# Altium schematic symbol library PACXlib.SchLib: 101 symbols
Pins are listed as number, name and electrical type; pins without a type are passive.

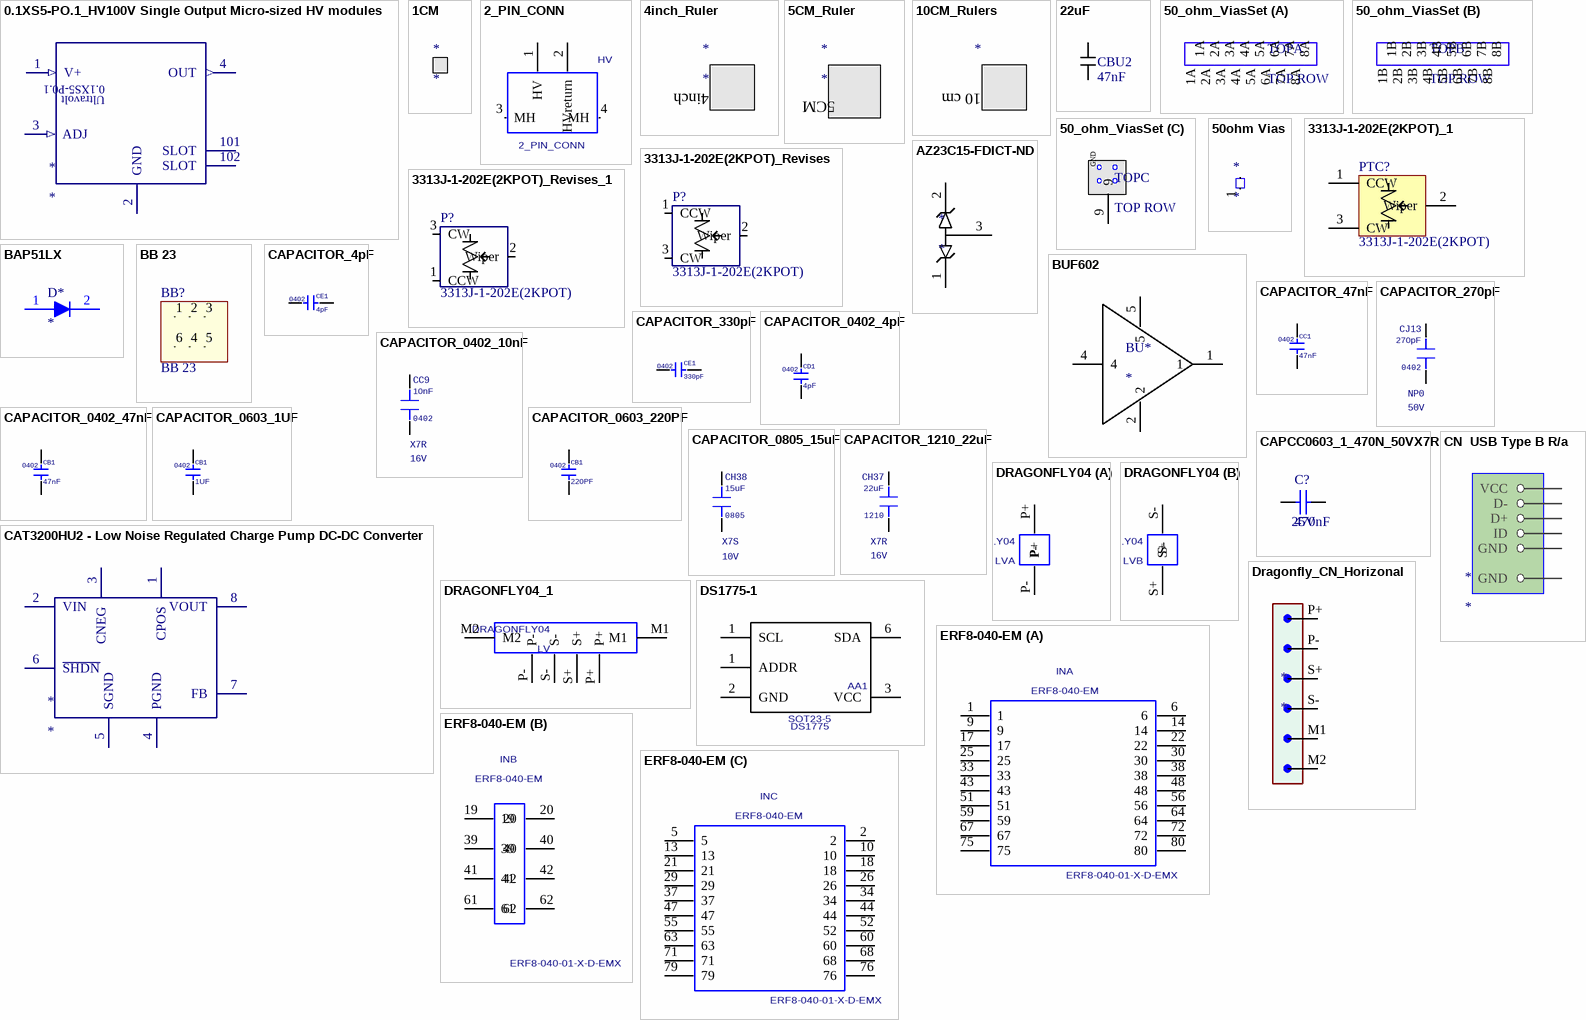
[diagram p0: symbols 0.1XS5-PO.1_HV100V Single Output Micro-sized HV modules to ERF8-040-EM]

## 0.1XS5-PO.1_HV100V Single Output Micro-sized HV modules
designator *
Extra-Small High Voltage Biasing Supply; Website: http://www.advanced-energy.com/product/application-notes/tn-xs-1
footprint 0.1XS5-PO.1
pins: 1 V+ (in) "5V Supply Voltage (Imax = 50mA)", 2 GND, 3 ADJ (in) "Remote Adjust Inputs.", 4 OUT (out) "HV OUTPUT (0-100V)", 101 SLOT, 102 SLOT
text: 0.1XS5-P0.1; Ultravolt

## 1CM
designator *
1 cm Ruler
footprint 1cm

## 2_PIN_CONN
designator HV
CONN HEADER 2POS R/A 30GOLD SMD; Manufacturer#: 2-1445099-2; digikey part #: 2-1445099-2-ND; PCB DECAL: 2_PIN_CONN
footprint 2_PIN_CONN
pins: 1 HV, 2 HVreturn, 3 MH, 4 MH

## 4inch_Ruler
designator *
4 Inch Rulers
footprint 4inch (Imperial Rules in Inches (Silkscreen Top))
text: 4inch

## 5CM_Ruler
designator *
5cm Rulers
footprint Ruler_5cm
text: 5CM

## 10CM_Rulers
designator *  (value not drawn)
10cm Rulers
footprint RULER_10CM
text: 10 cm

## 22uF
designator CBU2, comment 47nF
CAP CER 22UF 6.3V X5R 0603; Manufacturer: Samsung Electro-Mechanics America, Inc.; Manufacturer part #: CL10A226KQ8NRNE; Cost: $0.33; Package size: CAP SMD 0603; Supplier 1: Digi-Key; Supplier Part Number 1: 1276-2867-1-ND
footprint 0603 (0.063" L x 0.031" W (1.60mm x 0.80mm))
pins: 1 "GROUND", 2

## 50_ohm_ViasSet
designator TOP, comment TOP ROW
footprint 50OHM_Vias_Set
part A pins: 1A, 2A, 3A, 4A, 5A, 6A, 7A, 8A
part B pins: 1B, 2B, 3B, 4B, 5B, 6B, 7B, 8B
part C pins: 9
part C text: GND

## 50ohm Vias
designator *
footprint 50OHM_VIAS
pins: 1 IN, 2 GND

## 3313J-1-202E(2KPOT)_1
designator PTC?, comment 3313J-1-202E(2KPOT)
TRIMMER 2K OHM 0.125W SMD; Manufacturer: Bourns Inc.; cost: $2.08; Manufacturer part #: 3313J-1-202E; Package size: Rectangular - 0.138" x 0.126" Face x 0.087" H (3.50mm x 3.20mm x 2.20mm); Supplier 1: Digi-Key; Supplier Part Number 1: 3313J-202ECT-ND
footprint 2KPOT (TRIMMER 2K OHM 0.125W SMD)
pins: 1 CCW "Control Votage", 2 Wiper "Ground", 3 CW "Supply Voltage"

## 3313J-1-202E(2KPOT)_Revises
designator P?, comment 3313J-1-202E(2KPOT)
TRIMMER 2K OHM 0.125W SMD; Manufacturer: Bourns Inc.; cost: $2.08; Manufacturer part #: 3313J-1-202E; Package size: Rectangular - 0.138" x 0.126" Face x 0.087" H (3.50mm x 3.20mm x 2.20mm); Supplier 1: Digi-Key; Supplier Part Number 1: 3313J-202ECT-ND
footprint 2KPOT (TRIMMER 2K OHM 0.125W SMD)
pins: 1 CCW "Control Votage", 2 Wiper "Ground", 3 CW "Supply Voltage"

## 3313J-1-202E(2KPOT)_Revises_1
designator P?, comment 3313J-1-202E(2KPOT)
TRIMMER 2K OHM 0.125W SMD; Manufacturer: Bourns Inc.; cost: $2.08; Manufacturer part #: 3313J-1-202E; Package size: Rectangular - 0.138" x 0.126" Face x 0.087" H (3.50mm x 3.20mm x 2.20mm); Supplier 1: Digi-Key; Supplier Part Number 1: 3313J-202ECT-ND
footprint 2KPOT (TRIMMER 2K OHM 0.125W SMD)
pins: 1 CCW "Control Votage", 2 Wiper "Ground", 3 CW "Supply Voltage"

## AZ23C15-FDICT-ND
designator *
footprint SOT23-1
pins: 1, 2, 3

## BAP51LX
designator D*
DIODE SILICON PIN SOD-882T; Supplier 1: Digi-Key; Supplier Part Number 1: BAP51LX,315-ND
footprint DFN1006N-2_1
pins: 1, 2

## BB 23
designator BB?
footprint BREAD BOARD (2X5 .1IN BREAD BAORD)
pins: 1 "POSITIVE GROUND", 2 "POSITIVE GROUND", 3 "POSITIVE GROUND", 4 "POSITIVE GROUND", 5 "POSITIVE GROUND", 6 "POSITIVE GROUND"

## BUF602
designator BU*
IC OPAMP BUFFER 1GHZ 8SOIC; Supplier 1: Digi-Key; Supplier Part Number 1: BUF602IDR-ND
footprint SOT23-5
pins: 1, 2, 4, 5

## CAPACITOR_4pF
designator CE1, comment value 4pF  PCB DECAL: 0402  (hidden comment: CAPACITOR)
Part Number: C1005X7R1H473K050BB; Sim.Analog.Order: Model$; Voltage Rating: 50V; temp coeff: X7R; digikey part #: 445-7336-2-ND; Cost: 0.00204
footprint 0402
pins: 1, 2

## CAPACITOR_47nF
designator CC1, comment value 47nF  PCB DECAL: 0402  (hidden comment: CAPACITOR)
Part Number: C1005X7R1H473K050BB; Sim.Analog.Order: Model$; Voltage Rating: 50V; temp coeff: X7R; digikey part #: 445-7336-2-ND; Cost: 0.00204
footprint 0402
pins: 1, 2

## CAPACITOR_270pF
designator CJ13  value 270pF  Voltage Rating: 50V  PCB DECAL: 0402  temp coeff: NP0  (hidden comment: CAPACITOR_270pF)
CAP CER 270PF 50V NP0 0402; Part Number: UMK105CG271JV-F; Sim.Analog.Order: Model$; Supplier 1: Digi-Key; Supplier Part Number 1: 490-10686-1-ND; Supplier 2: Newark; Supplier Part Number 2: 64K2921
footprint 0402
pins: 1, 2

## CAPACITOR_330pF
designator CE1  value 330pF  PCB DECAL: 0402  (hidden comment: CAPACITOR_330pF)
CAP CER 330PF 50V C0G/NP0; Sim.Analog.Order: Model$; temp coeff: CP0; Voltage Rating: 50V; Supplier 1: Digi-Key; Supplier Part Number 1: 490-1295-6-ND
footprint 0402
pins: 1, 2

## CAPACITOR_0402_4pF
designator CD1, comment value 4pF  PCB DECAL: 0402  (hidden comment: CAPACITOR_4pF)
CAP CER 4PF 50V C0G/NP0 0402; Part Number: GJM1555C1H4R0BB01D; Sim.Analog.Order: Model$; temp coeff: X7R; Voltage Rating: 50V; digikey part #: 490-8100-1-ND; Cost: 0.00204; Supplier 1: Digi-Key; Supplier Part Number 1: 490-5873-1-ND
footprint 0402
pins: 1, 2

## CAPACITOR_0402_10nF
designator CC9  value 10nF  Voltage Rating: 16V  PCB DECAL: 0402  temp coeff: X7R  (hidden comment: CAPACITOR_0402_10nF)
CAP CER 10000PF 16V X7R 0402; Part Number: CC0402KRX7R7BB103; Sim.Analog.Order: Model$; digikey part #: 603-CC402KRX7R7BB103 (mouser); Cost: 0.002; Supplier 1: Digi-Key; Supplier Part Number 1: 490-4516-1-ND
footprint 0402
pins: 1, 2

## CAPACITOR_0402_47nF
designator CB1, comment value 47nF  PCB DECAL: 0402  (hidden comment: CAPACITOR_47nF)
CAP CER 0.047UF 50V X7R 0402; Part Number: C1005X7R1H473K050BB; Sim.Analog.Order: Model$; Voltage Rating: 50V; temp coeff: X7R; digikey part #: 445-7336-2-ND; Cost: 0.00204; Supplier 1: Digi-Key; Supplier Part Number 1: 445-6897-1-ND; Supplier 2: Digi-Key; Supplier Part Number 2: 490-3254-1-ND
footprint 0402
pins: 1, 2

## CAPACITOR_0603_1UF
designator CB1, comment value 1UF  PCB DECAL: 0402  (hidden comment: CAPACITOR_1UF)
CAP CER 1UF 1KV C0G/NP0 0603; Part Number: C1005X7R1H473K050BB; Sim.Analog.Order: Model$; temp coeff: X7R; Voltage Rating: 1kV; digikey part #: 445-7336-2-ND; Cost: 0.00204; Supplier 1: Newark; Supplier Part Number 1: 96M1143
footprint CC0603N1R (Chip capacitor 0603 ROUND PAD)
pins: 1, 2

## CAPACITOR_0603_220PF
designator CB1, comment value 220PF  PCB DECAL: 0402  (hidden comment: CAPACITOR_220PF)
CAP CER 220PF 1KV C0G/NP0 0603; Part Number: C1005X7R1H473K050BB; Sim.Analog.Order: Model$; temp coeff: X7R; Voltage Rating: 1kV; digikey part #: 445-7336-2-ND; Cost: 0.00204; Supplier 1: Newark; Supplier Part Number 1: 22T0023; Supplier 2: Digi-Key; Supplier Part Number 2: 399-14840-1-ND
footprint CC0603N1R (Chip capacitor 0603 ROUND PAD)
pins: 1, 2

## CAPACITOR_0805_15uF
designator CH38  value 15uF  Voltage Rating: 10V  PCB DECAL: 0805  temp coeff: X7S  (hidden comment: CAPACITOR_0805_15uF)
CAP TANT 15UF 4V 20% 0805; Part Number: C2012X7S1A156M125AC; Sim.Analog.Order: Model$; Cost: 0.084; digikey part #: 445-14559-2-ND; Supplier 1: Digi-Key; Supplier Part Number 1: 478-8361-6-ND; Supplier 2: Digi-Key; Supplier Part Number 2: 478-3274-2-ND; Supplier 3: Digi-Key; Supplier Part Number 3: 478-8361-1-ND; Supplier 4: Digi-Key; Supplier Part Number 4: 478-4187-2-ND; Supplier 5: Digi-Key; Supplier Part Number 5: 478-4187-1-ND; Supplier 6: Digi-Key; Supplier Part Number 6: 490-1643-2-ND
footprint 0803-2
pins: 1, 2

## CAPACITOR_1210_22uF
designator CH37  value 22uF  Voltage Rating: 16V  PCB DECAL: 1210  temp coeff: X7R  (hidden comment: CAPACITOR_1210_22uF)
CAP CER 22UF 16V X7R 1210; Part Number: C3225X7R1C226K250AC; Sim.Analog.Order: Model$; Cost: 0.216; Supplier 1: Digi-Key; Supplier Part Number 1: 478-3039-6-ND
footprint 1210
pins: 1, 2

## CAPCC0603_1_470N_50VX7R
designator C?, comment 470nF  Voltage rating: 25V
Capacitor chip ceramic 0603 25V X7R; Manufacturer: Murata; Manufacturer No: GRM188R71E474KA12D; Tech: SMDR; Package: Cap Chip 0603; Supplier 1: Newark; Supplier Part Number 1: 72W1809; Supplier 2: Mouser; Supplier Part Number 2: 81-GRM188R71E474KA12; Supplier 3: Digi-Key; Supplier Part Number 3: 490-3291-1-ND
signal-integrity model Model Name (Model Description)
footprint CC0603N1R (Chip capacitor 0603 ROUND PAD)
footprint CC0603N1X (Chip capacitor 0603)
footprint CC0603RF1 (Chip capacitor 0603 RF pad)
footprint CC0603RF1R (Chip capacitor 0603 RF pad ROUNDED PAD)
pins: 1, 2

## CAT3200HU2 - Low Noise Regulated Charge Pump DC-DC Converter
designator *
IC REG SWITCHD CAP ADJ/5V 8DFN; Supplier 1: Digi-Key; Supplier Part Number 1: CAT3200HU2-GT3OSCT-ND
footprint UDFN-8
pins: 1 CPOS, 2 VIN, 3 CNEG, 4 PGND, 5 SGND, 6 ~{SHDN}, 7 FB, 8 VOUT

## CN  USB Type B R/a
designator *
footprint USB Micro USB (USB - micro B USB 2.0 Receptacle Connector 5 Position Surface Mount, Right Angle; Through Hole)
pins: 1 VCC, 2 D-, 3 D+, 4 ID, 5 GND, 6 GND

## DRAGONFLY04
designator LV
PCB DECAL: DRAGONFLY04-RIGHT-ANGLE-SHORT
footprint DRAGONFLY04-RIGHT-ANGLE-SHORT
part A pins: P+, P-
part B pins: S+, S-

## DRAGONFLY04_1
designator LV, comment DRAGONFLY04
PCB DECAL: DRAGONFLY04-RIGHT-ANGLE-SHORT
footprint DRAGONFLY04-RIGHT-ANGLE-SHORT
pins: M1, M2, P+, P-, S+, S-

## Dragonfly_CN_Horizonal
designator *
footprint DRAGONFLY04-RA_NoMH
pins: M1, M2, P+, P-, S+, S-

## DS1775-1
designator AA1  Part Number: DS1775  PCB DECAL: SOT23-5  (hidden comment: DS1775-1)
Temperature_Sensors-SOT23-5; Geometry.Height: 0.8; digikey part #: DS1775R+T&RCT-ND; Cost: 2; Supplier 1: Digi-Key; Supplier Part Number 1: DS1775R4+CT-ND
footprint SOT23-5
pins: 1 ADDR, 1 SCL, 2 GND, 3 VCC, 6 SDA

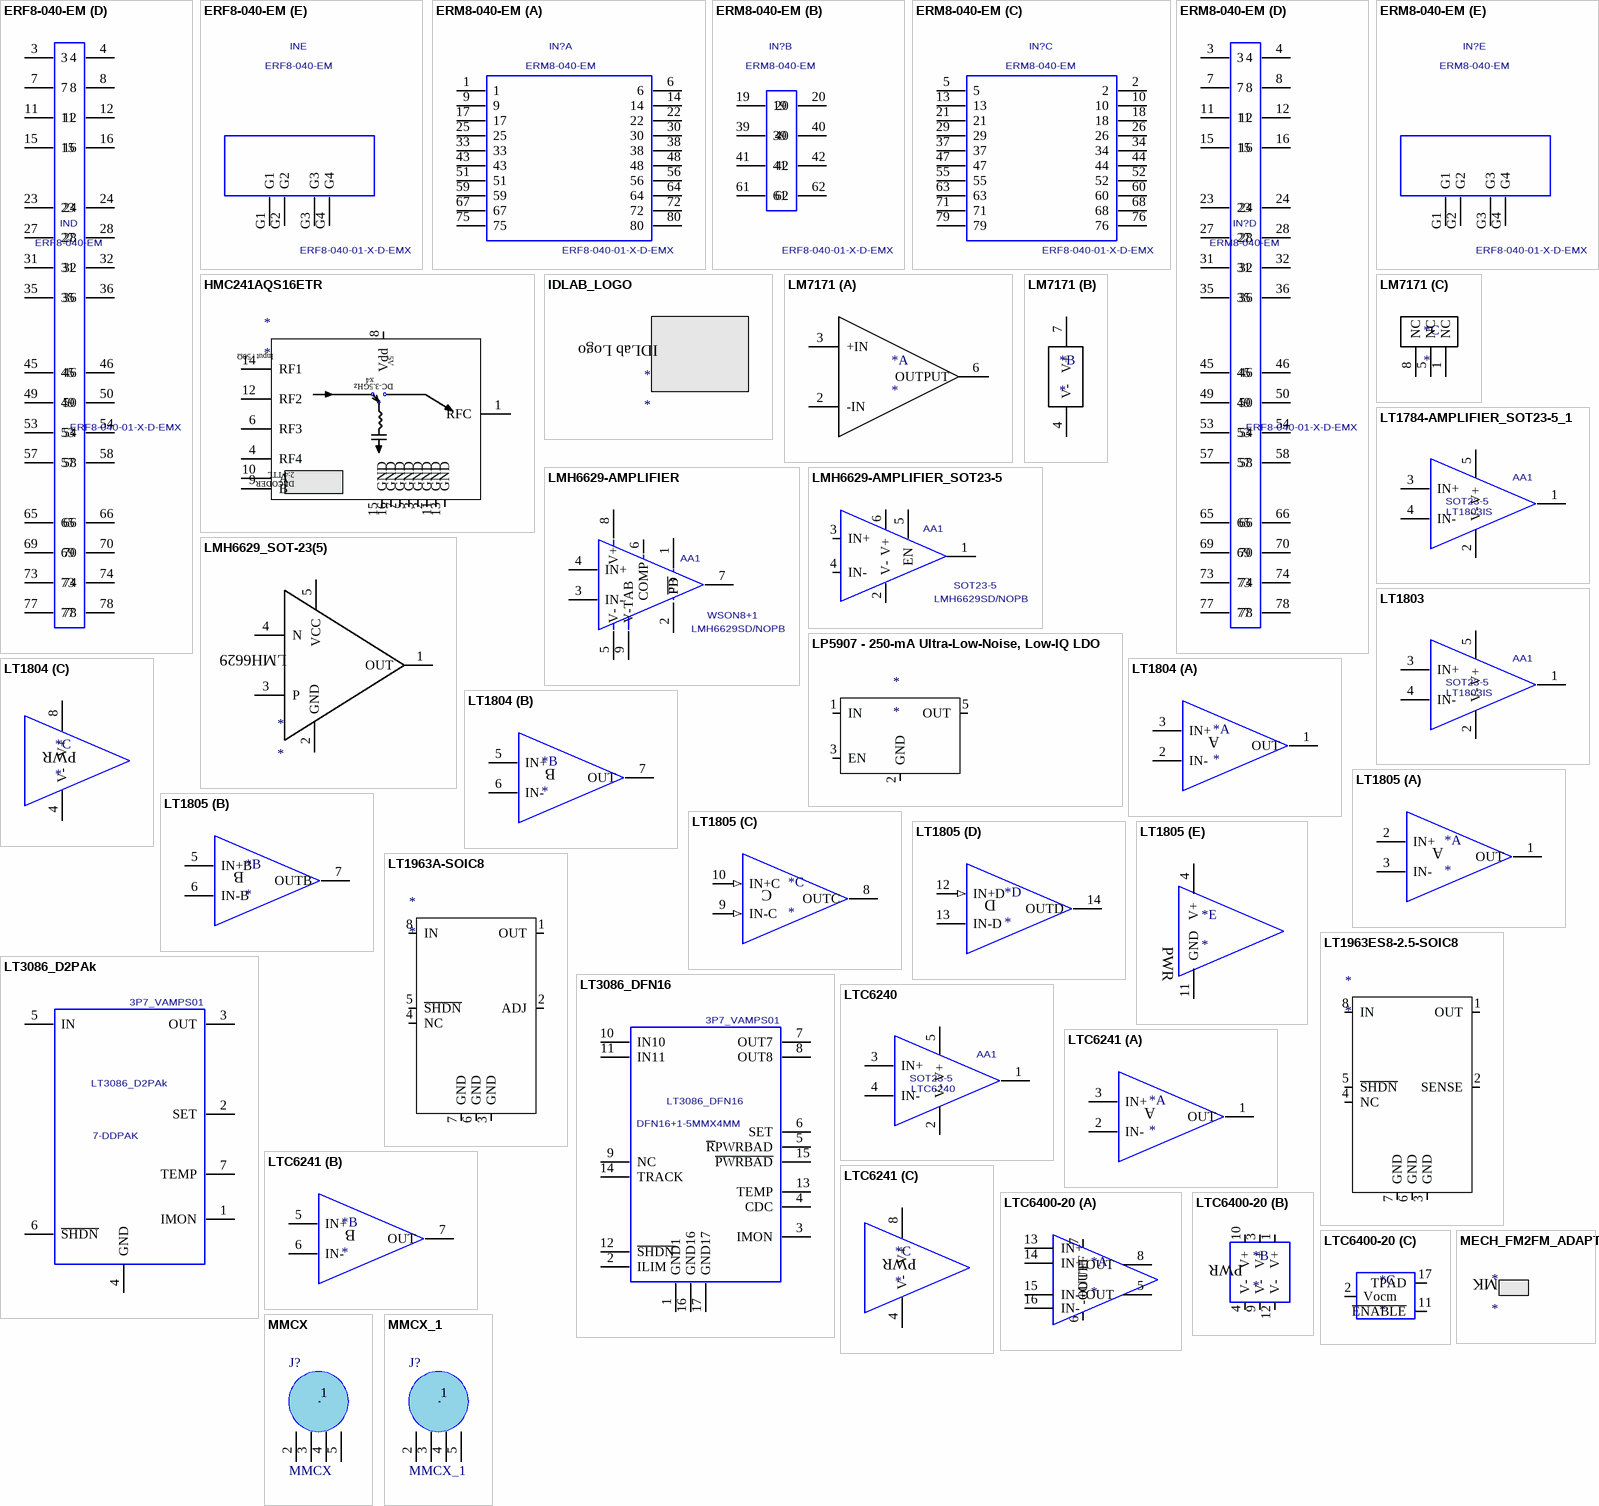
[diagram p1: symbols ERF8-040-EM to MMCX_1]

## ERF8-040-EM
designator IN  PCB DECAL: ERF8-040-01-X-D-EMX
Edge Rate Socket Assembly, .8 mm Pitch, 50 Pins; MANUFACTURER: SAMTEC; CREATED: July 22, 2015 - Wendy Xin
footprint ERF8-040-01-X-D-EMX
part A pins: 1, 6, 9, 14, 17, 22, 25, 30, 33, 38, 43, 48, 51, 56, 59, 64, 67, 72, 75, 80
part B pins: 19, 20, 39, 40, 41, 42, 61, 62
part C pins: 2, 5, 10, 13, 18, 21, 26, 29, 34, 37, 44, 47, 52, 55, 60, 63, 68, 71, 76, 79
part D pins: 3, 4, 7, 8, 11, 12, 15, 16, 23, 24, 27, 28, 31, 32, 35, 36, 45, 46, 49, 50, 53, 54, 57, 58, 65, 66, 69, 70, 73, 74, 77, 78
part E pins: G1, G2, G3, G4

## ERM8-040-EM
designator IN?  PCB DECAL: ERF8-040-01-X-D-EMX
Edge Rate Socket Assembly, .8 mm Pitch, 50 Pins; MANUFACTURER: SAMTEC; CREATED: July 22, 2015 - Wendy Xin
footprint ERM8-040-01-X-D-EMX
part A pins: 1, 6, 9, 14, 17, 22, 25, 30, 33, 38, 43, 48, 51, 56, 59, 64, 67, 72, 75, 80
part B pins: 19, 20, 39, 40, 41, 42, 61, 62
part C pins: 2, 5, 10, 13, 18, 21, 26, 29, 34, 37, 44, 47, 52, 55, 60, 63, 68, 71, 76, 79
part D pins: 3, 4, 7, 8, 11, 12, 15, 16, 23, 24, 27, 28, 31, 32, 35, 36, 45, 46, 49, 50, 53, 54, 57, 58, 65, 66, 69, 70, 73, 74, 77, 78
part E pins: G1, G2, G3, G4

## HMC241AQS16ETR
designator *
GaAs MMIC SP4T NON-REFLECTIVE  SWITCH, DC - 3.5 GHz; Supplier 1: Digi-Key; Supplier Part Number 1: 1127-3085-6-ND
footprint SOP127P600-8N
pins: 1 RFC, 2 GND, 3 GND, 4 RF4, 5 GND, 6 RF3, 7 GND, 8 Vdd, 9 B, 10 A, 11 GND, 12 RF2, 13 GND, 14 RF1, 15 GND, 16 GND
text: 5V; Input : 50Ω; x4; DC-3.5GHz; 2:4 TTL; DECODER

## IDLAB_LOGO
designator *
footprint LOGO
text: IDLab Logo

## LM7171
designator *
LM7171  Very High Speed,  High Output  Current,  Voltage  Feedback  Amplifier
footprint SO8
part A pins: 2 -IN, 3 +IN, 6 OUTPUT
part B pins: 4 V-, 7 V+
part C pins: 1 NC, 5 NC, 8 NC

## LMH6629-AMPLIFIER
designator AA1  Part Number: LMH6629SD/NOPB  PCB DECAL: WSON8+1  (hidden comment: LMH6629-AMPLIFIER)
IC OPAMP VFB 900MHZ 8WSON; Geometry.Height: 0.8; power: 0.05735W; digikey part #: 926-LMH6629SD/NOPB (mouser); Cost: 2; Supplier 1: Digi-Key; Supplier Part Number 1: LMH6629SDE/NOPBCT-ND
footprint WSON8+1
pins: 1 ~{PD}, 2 FB, 3 IN-, 4 IN+, 5 V-, 6 COMP, 7 OUT, 8 V+ (power), 9 V-TAB

## LMH6629-AMPLIFIER_SOT23-5
designator AA1  Part Number: LMH6629SD/NOPB  PCB DECAL: SOT23-5  (hidden comment: LMH6629-AMPLIFIER_SOT23-5)
IC OPAMP VFB 1GHZ SOT23-5; Geometry.Height: 0.8; power: 0.05735W; digikey part #: 926-LMH6629SD/NOPB (mouser); Cost: 2; Supplier 1: Digi-Key; Supplier Part Number 1: LMH6629MFE/NOPBDKR-ND; Supplier 2: Digi-Key; Supplier Part Number 2: LMH6629MFE/NOPBCT-ND
footprint SOT23-6-MODFIED
pins: 1 OUT, 2 V-, 3 IN+, 4 IN-, 5 EN, 6 V+ (power)

## LMH6629_SOT-23(5)
designator *
Supplier 1: Digi-Key; Supplier Part Number 1: LMH6629MFE/NOPBTR-ND
footprint SOT23-5
pins: 1 OUT, 2 GND, 3 P, 4 N, 5 VCC
text: LMH6629

## LP5907 - 250-mA Ultra-Low-Noise, Low-IQ LDO
designator *
Supplier 1: Digi-Key; Supplier Part Number 1: LP5907MFX-2.9/NOPB-ND
footprint SOT23-5
pins: 1 IN, 2 GND, 3 EN, 5 OUT

## LT1784-AMPLIFIER_SOT23-5_1
designator AA1, comment Part Number: LT1803IS  PCB DECAL: SOT23-5  (hidden comment: LT1784-AMPLIFIER_SOT23-5)
IC OPAMP GP 2.6MHZ RRO TSOT23-5; Geometry.Height: 0.8; power: 0.05735W; digikey part #: 926-LMH6629SD/NOPB (mouser); Cost: 2; Supplier 1: Digi-Key; Supplier Part Number 1: LT1784CS5#TRMPBFCT-ND
footprint SOT23-5
pins: 1 OUT, 2 V-, 3 IN+, 4 IN-, 5 V+ (power)

## LT1803
designator AA1  Part Number: LT1803IS  PCB DECAL: SOT23-5  (hidden comment: LT1803)
IC OPAMP GP 83MHZ RRO TSOT23-5; Geometry.Height: 0.8; power: 0.05735W; Cost: 2; Supplier 1: Digi-Key; Supplier Part Number 1: LT1803CS5#TRMPBFCT-ND; Supplier 2: Digi-Key; Supplier Part Number 2: LT1803CS5#TRMPBFDKR-ND
footprint SOT23-5
pins: 1 OUT, 2 V-, 3 IN+, 4 IN-, 5 V+ (power)

## LT1804
designator *
IC OPAMP GP 83MHZ RRO 8SO; Supplier 1: Digi-Key; Supplier Part Number 1: LT1804CS8#TRPBF-ND
footprint S8Package (8-Lead Plastic Small Outline (Narrow .150 Inch))
part A pins: 1 OUT, 2 IN-, 3 IN+
part B pins: 5 IN+, 6 IN-, 7 OUT
part C pins: 4 V-, 8 V+
part A text: A
part B text: B
part C text: PWR

## LT1805
designator *
IC OPAMP GP 83MHZ RRO 14SO; Supplier 1: Digi-Key; Supplier Part Number 1: LT1805CS#PBF-ND
footprint SO-14
part A pins: 1 OUT, 2 IN+, 3 IN-
part B pins: 5 IN+B, 6 IN-B, 7 OUTB
part C pins: 8 OUTC, 9 IN-C (in), 10 IN+C (in)
part D pins: 12 IN+D (in), 13 IN-D, 14 OUTD
part E pins: 4 V+, 11 GND
part A text: A
part B text: B
part C text: C
part D text: D
part E text: PWR

## LT1963A-SOIC8
designator *
IC REG LINEAR POS ADJ 1.5A 8SOIC; NOTE1: USE 10UF XR7 For output; Supplier 1: Digi-Key; Supplier Part Number 1: LT1963AES8#PBF-ND
footprint S8Package (8-Lead Plastic Small Outline (Narrow .150 Inch))
pins: 1 OUT, 2 ADJ, 3 GND, 4 NC, 5 ~{SHDN}, 6 GND, 7 GND, 8 IN

## LT1963ES8-2.5-SOIC8
designator *
IC REG LINEAR POS FIX 2.5 1.5A 8SOIC; NOTE1: USE 10UF XR7 For output; Supplier 1: Digi-Key; Supplier Part Number 1: LT1963AES8#PBF-ND
footprint S8Package (8-Lead Plastic Small Outline (Narrow .150 Inch))
pins: 1 OUT, 2 SENSE, 3 GND, 4 NC, 5 ~{SHDN}, 6 GND, 7 GND, 8 IN

## LT3086_D2PAk
designator 3P7_VAMPS01  PCB DECAL: 7-DDPAK
LDO reg with Imon, shdn, pwrgood; Part Number: LT3086ER#PBF-ND; Geometry.Height: 0.9mm; power: 0.391257W; digikey part #: LT3086ER#PBF-ND; Cost: 3.64; Supplier 1: Newark; Supplier Part Number 1: 20X9062; Supplier 2: Digi-Key; Supplier Part Number 2: LT3086MPR#PBF-ND; Supplier 3: Digi-Key; Supplier Part Number 3: LT3086IR#PBF-ND
footprint DDPAK-7
pins: 1 IMON, 2 SET, 3 OUT, 4 GND, 5 IN (power), 6 ~{SHDN}, 7 TEMP

## LT3086_DFN16
designator 3P7_VAMPS01  PCB DECAL: DFN16+1-5MMX4MM
LDO reg with Imon, shdn, pwrgood; Part Number: LT3086EDHD#PBF; Geometry.Height: 0.9mm; power: 0.391257W; digikey part #: LT3086EDHD#PBF-ND; Cost: 3.64; Supplier 1: Newark; Supplier Part Number 1: 20X9065; Supplier 2: Digi-Key; Supplier Part Number 2: LT3086IDHD#PBF-ND
footprint DFN16+1-5MMX4MM
pins: 1 GND1, 2 ILIM, 3 IMON, 4 CDC, 5 ~{R}PWRBAD, 6 SET, 7 OUT7, 8 OUT8, 9 NC, 10 IN10 (power), 11 IN11 (power), 12 ~{SHDN}, 13 TEMP, 14 TRACK, 15 ~{PWRBAD}, 16 GND16, 17 GND17

## LTC6240
designator AA1  PCB DECAL: SOT23-5  (hidden comment: LTC6240)
Single 18MHz, LowNoise, Rail-to-Rail Output CMOS Op Amp SOT23-5; Geometry.Height: 0.8; power: 0.05735W; digikey part #: LTC6240CS5#TRMPBFCT-ND; Cost: 2; Supplier 1: Digi-Key; Supplier Part Number 1: LTC6240IS5#TRMPBFCT-ND; Supplier 2: Digi-Key; Supplier Part Number 2: LTC6240IS5#TRMPBFDKR-ND; Part Number: LTC6240
footprint SOT23-5
pins: 1 OUT, 2 V-, 3 IN+, 4 IN-, 5 V+ (power)

## LTC6241
designator *
Dual 18MHz Low Noise, Rail-to-Rail Output Op-Amps; Supplier 1: Digi-Key; Supplier Part Number 1: LTC6241CS8#PBF-ND; Package: SO8
footprint S8Package (8-Lead Plastic Small Outline (Narrow .150 Inch))
part A pins: 1 OUT, 2 IN-, 3 IN+
part B pins: 5 IN+, 6 IN-, 7 OUT
part C pins: 4 V-, 8 V+
part A text: A
part B text: B
part C text: PWR

## LTC6400-20
designator *
IC ADC DRIVER DIFF 16-QFN; Supplier 1: Digi-Key; Supplier Part Number 1: LTC6400IUD-20#PBF-ND
footprint QFN65P400X400X100-16N (QFN 4x4mm 16pin R0.65mm)
part A pins: 5 -OUT, 6 -OUTF, 7 +OUTF, 8 +OUT, 13 IN+, 14 IN+, 15 IN-, 16 IN-
part B pins: 1 V+, 3 V+, 4 V-, 9 V-, 10 V+, 12 V-
part C pins: 2 Vocm, 11 ~{ENABLE}, 17 TPAD
part B text: PWR

## MECH_FM2FM_ADAPTER
designator *
footprint SMA_MECH_FM2FM_CONN
text: MK

## MMCX
designator J?
CONN MMCX JACK STR 50 OHM PCB; Manufacturer: Molex, LLC; Manufacturer part #: 0734151471; Cost: $3.10; Package size: MMCX; Supplier 1: Digi-Key; Supplier Part Number 1: WM5557-ND
footprint MMCX_VERTICAL_THROUGH_HOLE
pins: 1, 2, 3 "INPUT", 4 "INPUT", 5 "INPUT"

## MMCX_1
designator J?
CONN MMCX JACK STR 50 OHM PCB; Manufacturer: Molex, LLC; Manufacturer part #: 0734151471; Cost: $3.10; Package size: MMCX; Supplier 1: Digi-Key; Supplier Part Number 1: WM5557-ND
footprint MMCX_VERTICAL_THROUGH_HOLE_smallpad
pins: 1, 2, 3 "INPUT", 4 "INPUT", 5 "INPUT"

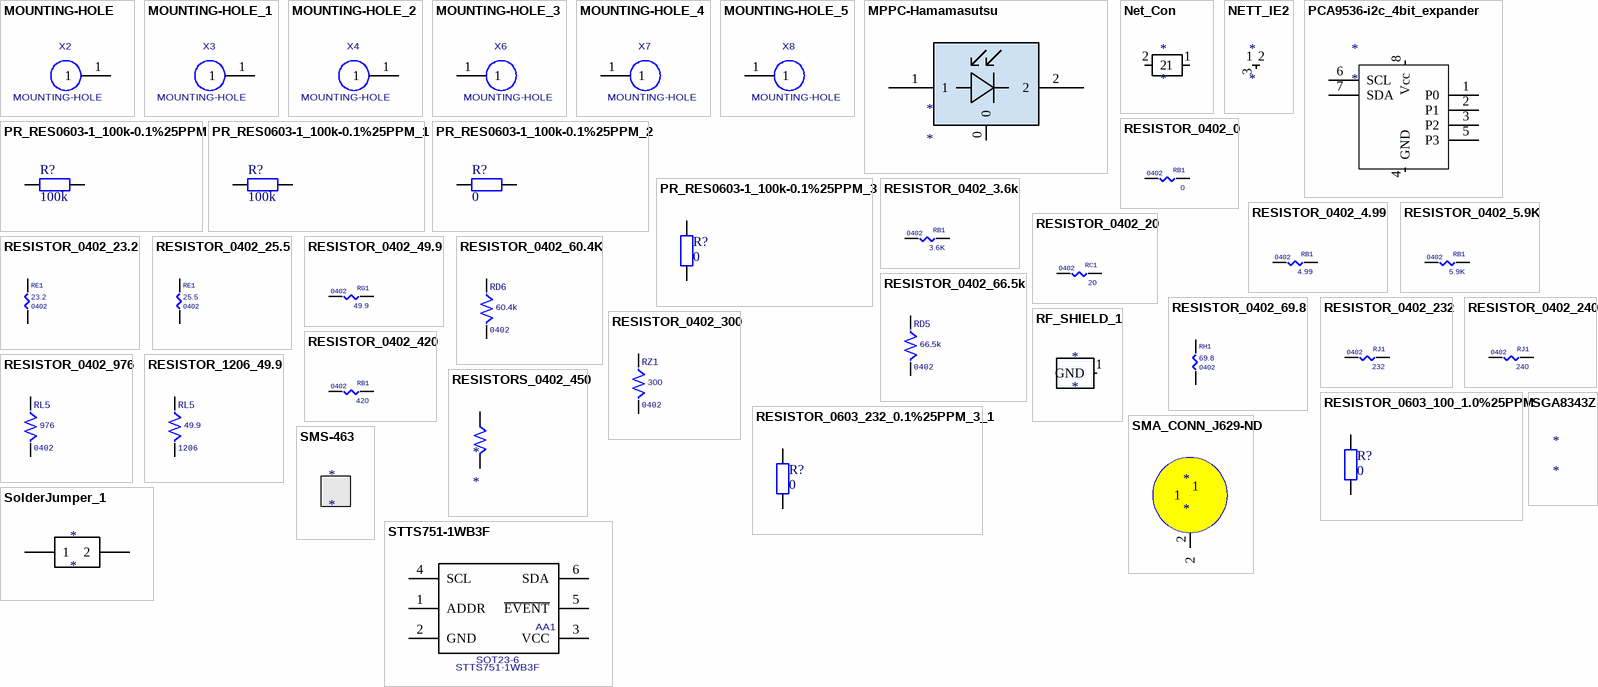
[diagram p2: symbols MOUNTING-HOLE to STTS751-1WB3F]

## MOUNTING-HOLE
designator X2
mounting hole; notes: do not install; PCB DECAL: MOUNTING-HOLE-6-32
footprint 6-32 MH (6-32 MOUNTING HOLE)
pins: 1

## MOUNTING-HOLE_1
designator X3, comment MOUNTING-HOLE
mounting hole; notes: do not install; PCB DECAL: MOUNTING-HOLE-6-32
footprint 6-32 MH (6-32 MOUNTING HOLE)
pins: 1

## MOUNTING-HOLE_2
designator X4, comment MOUNTING-HOLE
mounting hole; notes: do not install; PCB DECAL: MOUNTING-HOLE-6-32
footprint 6-32 MH (6-32 MOUNTING HOLE)
pins: 1

## MOUNTING-HOLE_3
designator X6, comment MOUNTING-HOLE
mounting hole; notes: do not install; PCB DECAL: MOUNTING-HOLE-6-32
footprint 6-32 MH (6-32 MOUNTING HOLE)
pins: 1

## MOUNTING-HOLE_4
designator X7, comment MOUNTING-HOLE
mounting hole; notes: do not install; PCB DECAL: MOUNTING-HOLE-6-32
footprint 6-32 MH (6-32 MOUNTING HOLE)
pins: 1

## MOUNTING-HOLE_5
designator X8, comment MOUNTING-HOLE
mounting hole; notes: do not install; PCB DECAL: MOUNTING-HOLE-6-32
footprint 6-32 MH (6-32 MOUNTING HOLE)
pins: 1

## MPPC-Hamamasutsu
designator *
footprint MPPC-Hamamasuku (3x3mm Multi-Pixel photon counter)
pins: 0, 1, 2

## Net_Con
designator *
footprint PCBComponent_1
pins: 1, 2

## NETT_IE2
designator *  (net tie, no BOM)
VCC_NET_TIE
footprint NETTIE
pins: 1 NET1, 2 NET2, 3 NET3

## PCA9536-i2c_4bit_expander
designator *
IC I/O EXPANDER I2C 4B 8VSSOP; Supplier 1: Digi-Key; Supplier Part Number 1: 296-20952-6-ND
footprint DGK (S-PDSO-G8) (Plastic Small-Outline Package (TI))
pins: 1 P0, 2 P1, 3 P2, 4 GND, 5 P3, 6 SCL, 7 SDA, 8 Vcc
1 alternate drawing of the same symbol

## PR_RES0603-1_100k-0.1%25PPM
designator R?, comment 100k
Chip Resistor 0603 100mW 0.1% 25ppm; Manufacturer: Panasonic; Manufacturer No: ERA-3AEB104V; Tech: SMDR; Package: Res Chip 0603; Supplier 1: Digi-Key; Supplier Part Number 1: P100KDBCT-ND; Supplier 2: Newark; Supplier Part Number 2: 08N2096; Supplier 3: Mouser; Supplier Part Number 3: 667-ERA-3AEB104V
simulation model RESISTOR (Resistor)
signal-integrity model Res
footprint RC0603N1R (Chip resistor 0603 ROUNDED PAD)
footprint RC0603N1X (Chip resistor 0603)
footprint RC0603RF1 (Chip resistor 0603 RF pad)
footprint RC0603RF1R (Chip resistor 0603 RF pad ROUNDED PAD)
pins: 1, 2
1 alternate drawing of the same symbol

## PR_RES0603-1_100k-0.1%25PPM_1
designator R?, comment 100k
Chip Resistor 0603 100mW 0.1% 25ppm; Manufacturer: Panasonic; Manufacturer No: ERA-3AEB104V; Tech: SMDR; Package: Res Chip 0603; Supplier 1: Digi-Key; Supplier Part Number 1: P100KDBCT-ND; Supplier 2: Newark; Supplier Part Number 2: 08N2096; Supplier 3: Mouser; Supplier Part Number 3: 667-ERA-3AEB104V
simulation model RESISTOR (Resistor)
signal-integrity model Res
footprint RC0603N1R (Chip resistor 0603 ROUNDED PAD)
footprint RC0603N1X (Chip resistor 0603)
footprint RC0603RF1 (Chip resistor 0603 RF pad)
footprint RC0603RF1R (Chip resistor 0603 RF pad ROUNDED PAD)
pins: 1, 2
1 alternate drawing of the same symbol

## PR_RES0603-1_100k-0.1%25PPM_2
designator R?, comment 0
Chip Resistor 0603 100mW 0.1% 25ppm; Manufacturer: Panasonic; Manufacturer No: ERA-3AEB104V; Tech: SMDR; Package: Res Chip 0603; Supplier 1: Digi-Key; Supplier Part Number 1: P100KDBCT-ND; Supplier 2: Newark; Supplier Part Number 2: 08N2096; Supplier 3: Mouser; Supplier Part Number 3: 667-ERA-3AEB104V
simulation model RESISTOR (Resistor)
signal-integrity model Res
footprint RC0603N1R (Chip resistor 0603 ROUNDED PAD)
footprint RC0603N1X (Chip resistor 0603)
footprint RC0603RF1 (Chip resistor 0603 RF pad)
footprint RC0603RF1R (Chip resistor 0603 RF pad ROUNDED PAD)
pins: 1, 2
1 alternate drawing of the same symbol

## PR_RES0603-1_100k-0.1%25PPM_3
designator R?, comment 0
Chip Resistor 0603 100mW 0.1% 25ppm; Manufacturer: Panasonic; Manufacturer No: ERA-3AEB104V; Tech: SMDR; Package: Res Chip 0603; Supplier 1: Digi-Key; Supplier Part Number 1: P100KDBCT-ND; Supplier 2: Newark; Supplier Part Number 2: 08N2096; Supplier 3: Mouser; Supplier Part Number 3: 667-ERA-3AEB104V
simulation model RESISTOR (Resistor)
signal-integrity model Res
footprint RC0603N1R (Chip resistor 0603 ROUNDED PAD)
footprint RC0603N1X (Chip resistor 0603)
footprint RC0603RF1 (Chip resistor 0603 RF pad)
footprint RC0603RF1R (Chip resistor 0603 RF pad ROUNDED PAD)
pins: 1, 2
1 alternate drawing of the same symbol

## RESISTOR_0402_0
designator RB1  value 0  PCB DECAL: 0402  (hidden comment: RESISTOR_0402_0)
RES SMD 0 OHM JUMPER 1/16W 0402; Part Number: CRCW04024R99FKED; Geometry.Height: 0.5mm; Sim.Analog.Order: Model$; Size / Package: 0402; digikey part #: 541-4.99LLTR-ND; Supplier 1: Newark; Supplier Part Number 1: 68R0036; Supplier 2: Newark; Supplier Part Number 2: 67R9963
footprint 0402
pins: 1, 2

## RESISTOR_0402_3.6k
designator RB1  value 3.6K  PCB DECAL: 0402  (hidden comment: RESISTOR_0402_3.6k)
RES SMD 3.7K OHM 0.1% 1/16W 0402; Part Number: CRCW04024R99FKED; Geometry.Height: 0.5mm; Sim.Analog.Order: Model$; Size / Package: 0402; digikey part #: 541-4.99LLTR-ND; Supplier 1: Newark; Supplier Part Number 1: 53K2321; Supplier 2: Newark; Supplier Part Number 2: 52K7007
footprint 0402
pins: 1, 2

## RESISTOR_0402_4.99
designator RB1  value 4.99  PCB DECAL: 0402  (hidden comment: RESISTOR_0402_4.99)
RES SMD 4.99 OHM 1% 1/16W 0402; Part Number: CRCW04024R99FKED; Geometry.Height: 0.5mm; Sim.Analog.Order: Model$; Size / Package: 0402; digikey part #: 541-4.99LLTR-ND; Supplier 1: Newark; Supplier Part Number 1: 46M4461
footprint 0402
pins: 1, 2

## RESISTOR_0402_5.9K
designator RB1  value 5.9K  PCB DECAL: 0402  (hidden comment: RESISTOR_0402_5.9K)
RES SMD 5.9K OHM 1% 1/16W 0402; Part Number: RC0402FR-075K9L; Geometry.Height: 0.5mm; Sim.Analog.Order: Model$; Size / Package: 0402; digikey part #: 541-4.99LLTR-ND; Supplier 1: Digi-Key; Supplier Part Number 1: YAG3197CT-ND
footprint 0402
pins: 1, 2

## RESISTOR_0402_20
designator RC1  value 20  PCB DECAL: 0402  (hidden comment: RESISTOR_0402_20)
RES SMD 20.5 OHM 1% 1/10W 0402; Part Number: ERJ-2RKF20R5X; Geometry.Height: 0.5mm; Sim.Analog.Order: Model$; digikey part #: 311-54.9LRTR-ND; Supplier 1: Newark; Supplier Part Number 1: 90W3151; Supplier 2: Newark; Supplier Part Number 2: 53W4946; Supplier 3: Newark; Supplier Part Number 3: 90W2996
footprint 0402
pins: 1, 2

## RESISTOR_0402_23.2
designator RE1  value 23.2  PCB DECAL: 0402  (hidden comment: RESISTOR_0402_23.2)
RES SMD 23.2 OHM 1% 1/10W 0402; Part Number: ERJ-2RKF20R0X; Geometry.Height: 0.5mm; Sim.Analog.Order: Model$; Tolerance: 1%; digikey part #: 667-ERJ-2RKF20R0X (mouser); Supplier 1: Digi-Key; Supplier Part Number 1: P23.2LTR-ND
footprint 0402
pins: 1, 2

## RESISTOR_0402_25.5
designator RE1  value 25.5  PCB DECAL: 0402  (hidden comment: RESISTOR_0402_25.5)
RES SMD 25.5 OHM 1% 1/10W 0402; Part Number: RNCF0402BTC25R5; Geometry.Height: 0.5mm; Sim.Analog.Order: Model$; Tolerance: 0.1%; digikey part #: RNCF0402BTC25R5-ND; Supplier 1: Digi-Key; Supplier Part Number 1: P25.5LCT-ND; Supplier 2: Newark; Supplier Part Number 2: 53W4292
footprint 0402
pins: 1, 2

## RESISTOR_0402_49.9
designator RG1  value 49.9  PCB DECAL: 0402  (hidden comment: RESISTOR_0402_49.9)
RES SMD 49.9 OHM 1% 1/16W 0402; Part Number: ERJ-2RKF23R2X; Geometry.Height: 0.5mm; Sim.Analog.Order: Model$; digikey part #: P23.2LTR-ND; Supplier 1: Digi-Key; Supplier Part Number 1: 1276-3469-6-ND; Supplier 2: Newark; Supplier Part Number 2: 67R9942
footprint 0402
pins: 1, 2

## RESISTOR_0402_60.4K
designator RD6  value 60.4k  Size / Package: 0402  (hidden comment: RESISTOR_0402_60.4K)
RES SMD 60.4K OHM 1% 1/16W 0402; Part Number: MCR01MRTF6042; Geometry.Height: 0.5mm; Sim.Analog.Order: Model$; PCB DECAL: 0402; digikey part #: RHM60.4KCDTR-ND; Supplier 1: Digi-Key; Supplier Part Number 1: 311-60.4KLRCT-ND
footprint 0402
pins: 1, 2

## RESISTOR_0402_66.5k
designator RD5  value 66.5k  PCB DECAL: 0402  (hidden comment: RESISTOR_0402_66.5k)
RES SMD 66.5K OHM 1% 1/16W 0402; Part Number: RC1005F6652CS; Sim.Analog.Order: Model$; digikey part #: 1276-4189-2-ND; Supplier 1: Digi-Key; Supplier Part Number 1: YAG3209CT-ND
footprint 0402
pins: 1, 2

## RESISTOR_0402_69.8
designator RH1  value 69.8  PCB DECAL: 0402  (hidden comment: RESISTOR_0402_69.8)
RES SMD 69.8 OHM 1% 1/16W 0402; Part Number: CRCW040269R8FKED; Geometry.Height: 0.5mm; Sim.Analog.Order: Model$; digikey part #: 541-69.8LTR-ND; Supplier 1: Newark; Supplier Part Number 1: 52K7235
footprint 0402
pins: 1, 2

## RESISTOR_0402_232
designator RJ1  value 232  PCB DECAL: 0402  (hidden comment: RESISTOR_0402_232)
RES SMD 232 OHM 1% 1/16W 0402; Part Number: ERJ-1GEF4990C; Geometry.Height: 0.5mm; Sim.Analog.Order: Model$; digikey part #: P499ABTR-ND; Supplier 1: Digi-Key; Supplier Part Number 1: YAG3063CT-ND
footprint 0402
pins: 1, 2

## RESISTOR_0402_240
designator RJ1  value 240  PCB DECAL: 0402  (hidden comment: RESISTOR_0402_240)
RES SMD 240 OHM 1% 1/16W 0402; Part Number: RG1005P-241-W-T5; Geometry.Height: 0.5mm; Sim.Analog.Order: Model$; digikey part #: RG1005P-241-W-T5-ND; Supplier 1: Digi-Key; Supplier Part Number 1: 311-240LRCT-ND; Supplier 2: Digi-Key; Supplier Part Number 2: 311-240LRDKR-ND
footprint 0402
pins: 1, 2

## RESISTOR_0402_300
designator RZ1  value 300  Size / Package: 0402  (hidden comment: RESISTOR_0402_300)
RES SMD 300 OHM 1% 1/16W 0402; Part Number: RC0402FR-07300RL; Geometry.Height: 0.5mm; Sim.Analog.Order: Model$; PCB DECAL: 0402; digikey part #: 311-300LRTR-ND; Supplier 1: Digi-Key; Supplier Part Number 1: 311-300LRCT-ND
footprint 0402
pins: 1, 2

## RESISTOR_0402_420
designator RB1  value 420  PCB DECAL: 0402  (hidden comment: RESISTOR_0402_420)
RES SMD 422 OHM 1% 1/16W 0402; Part Number: RG1005V-4420-P-T1; Geometry.Height: 0.5mm; Sim.Analog.Order: Model$; Size / Package: 0402; digikey part #: RG1005V-4420-P-T1-ND; Supplier 1: Digi-Key; Supplier Part Number 1: YAG3158CT-ND
footprint 0402
pins: 1, 2

## RESISTOR_0402_976
designator RL5  value 976  Size / Package: 0402  (hidden comment: RESISTOR_0402_976)
RES SMD 976 OHM 1% 1/16W 0402; Part Number: ERJ-2RKF9760X; Geometry.Height: 0.5mm; Sim.Analog.Order: Model$; PCB DECAL: 0402; digikey part #: P976LTR-ND; Supplier 1: Digi-Key; Supplier Part Number 1: YAG3266CT-ND
footprint 0402
pins: 1, 2

## RESISTOR_0603_100_1.0%25PPM
designator R?, comment 0
100RES SMD 100 OHM 1% 1/10W 0603; Manufacturer: Yageo; Manufacturer No: YAG3561CT-ND; Tech: SMDR; Package: Res Chip 0603; Supplier 1: Newark; Supplier Part Number 1: 68R0130; Supplier 2: Digi-Key; Supplier Part Number 2: 311-1.00KHRDKR-ND
simulation model RESISTOR (Resistor)
signal-integrity model Res
footprint RC0603N1R (Chip resistor 0603 ROUNDED PAD)
footprint RC0603N1X (Chip resistor 0603)
footprint RC0603RF1 (Chip resistor 0603 RF pad)
footprint RC0603RF1R (Chip resistor 0603 RF pad ROUNDED PAD)
pins: 1, 2
1 alternate drawing of the same symbol

## RESISTOR_0603_232_0.1%25PPM_3_1
designator R?, comment 0
232 Ohms ±0.1% 0.063W, 1/16W Chip Resistor 0603 (1608 Metric) Thin Film; Manufacturer: TE Connectivity; Manufacturer No: RN73C1J232RBTDF; Tech: SMDR; Package: Res Chip 0603; Supplier 1: Digi-Key; Supplier Part Number 1: A102321CT-ND
simulation model RESISTOR (Resistor)
signal-integrity model Res
footprint RC0603N1R (Chip resistor 0603 ROUNDED PAD)
footprint RC0603N1X (Chip resistor 0603)
footprint RC0603RF1 (Chip resistor 0603 RF pad)
footprint RC0603RF1R (Chip resistor 0603 RF pad ROUNDED PAD)
pins: 1, 2
1 alternate drawing of the same symbol

## RESISTOR_1206_49.9
designator RL5, comment value 49.9  Size / Package: 1206  (hidden comment: RESISTOR)
Part Number: ERJ-2RKF9760X; Geometry.Height: 0.5mm; Sim.Analog.Order: Model$; PCB DECAL: 0402; digikey part #: P976LTR-ND; Supplier 1: Digi-Key; Supplier Part Number 1: RMCF1206FT49K9CT-ND
footprint RC1206N1R (Chip resistor 1206 ROUNDED PAD)
pins: 1, 2

## RESISTORS_0402_450
designator *
footprint 0402
pins: 1, 2

## RF_SHIELD_1
designator *
footprint TE-RF_SHEILD-2118730-2
pins: 1 GND

## SGA8343Z
designator *
LOW NOISE, HIGH GAIN SiGe HBT
footprint MMM1362

## SMA_CONN_J629-ND
designator *
CONN SAM JACK END LAUNCH PCB-J629-ND-50OHM EDGE MNT; Supplier 1: Digi-Key; Supplier Part Number 1: J629-ND; Supplier 2: Newark; Supplier Part Number 2: 16F3627
footprint SMA_J629-ND (CONN SAM JACK END LAUNCH PCB)
pins: 1, 2

## SMS-463
designator *
1.805X3.979X0.236-SURFACE MOUNT; Supplier 1: Digi-Key; Supplier Part Number 1: 1798-1239-1-ND
footprint SMS-463_RF-SHIELDING

## SolderJumper_1
designator *
footprint SOLDERJUMPER (PCB solder jumper)
pins: 1, 2

## STTS751-1WB3F
designator AA1  PCB DECAL: SOT23-6  (hidden comment: STTS751-1WB3F)
Temperature_Sensors-SOT23-5; Geometry.Height: 0.8; digikey part #: 497-10662-1-ND; Cost: 2; Supplier 1: Digi-Key; Supplier Part Number 1: 497-10662-1-ND; Part Number: STTS751-1WB3F
footprint SOT23-6
pins: 1 ADDR, 2 GND, 3 VCC, 4 SCL, 5 ~{EVENT}, 6 SDA

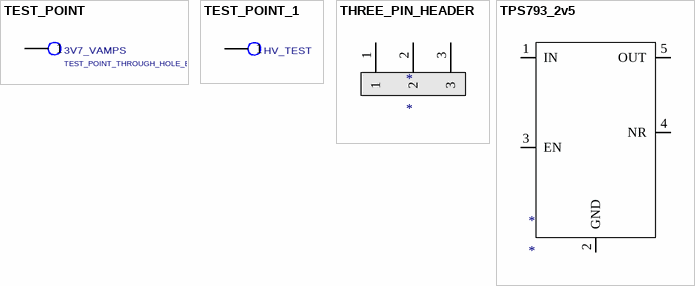
[diagram p3: symbols TEST_POINT to TPS793_2v5]

## TEST_POINT
designator 3V7_VAMPS  PCB DECAL: TEST_POINT_THROUGH_HOLE_BIG  (hidden comment: TEST_POINT)
surface-mount test point; notes: do not install
footprint TEST_POINT_THROUGH_HOLE_BIG
pins: 1

## TEST_POINT_1
designator HV_TEST, comment TEST_POINT  (value not drawn)
test point; Geometry.Height: 5.5 mm; notes: through-hole; PCB DECAL: TEST_POINT_THROUGH_HOLE_BIG; digikey part #: various; Cost: $0.24
footprint TEST_POINT_THROUGH_HOLE_BIG
pins: 1

## THREE_PIN_HEADER
designator *
footprint PINHDR1X3 (Pin header 1x3 pin R2.54mm)
pins: 1, 2, 3

## TPS793_2v5
designator *
footprint SOT23-5
pins: 1 IN, 2 GND, 3 EN, 4 NR, 5 OUT